# Altium footprint library SN74AVC4T774RSVR.PcbLib: 1 footprints
Each footprint in its own frame and in the unit in brackets; x right, y up, seen from the top. Pads: shape width x height; smd on the part's side, far side on the other; paste and mask are expansions set on the pad; w line width, h text height; cw(c..) or ccw(c..) is an arc to the next point about the centre after c.
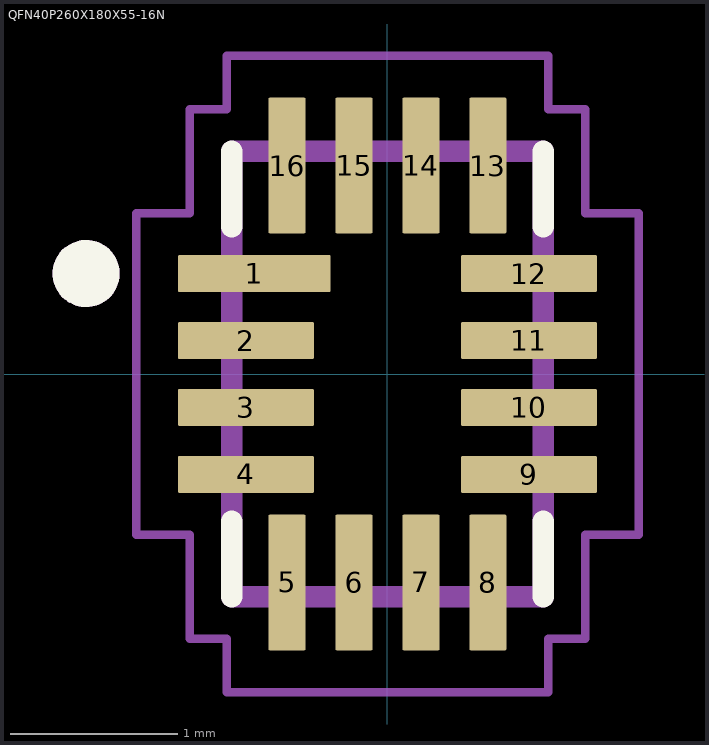
[diagram p0: the footprint, top view; thin cyan lines are the x and y axes]

## QFN40P260X180X55-16N [mm]
pads (16):
  rrect6% 0.91x0.22 smd: 1(-0.795,0.6)
  rrect6% 0.81x0.22 smd: 2(-0.845,0.2) 3(-0.845,-0.2) 4(-0.845,-0.6) 9(0.845,-0.6) 10(0.845,-0.2) 11(0.845,0.2) 12(0.845,0.6)
  rrect6% 0.22x0.81 smd: 5(-0.6,-1.245) 6(-0.2,-1.245) 7(0.2,-1.245) 8(0.6,-1.245) 13(0.6,1.245) 14(0.2,1.245) 15(-0.2,1.245) 16(-0.6,1.245)
Top Overlay:
  circle w0.2: c-1.8,0.6 r0.1
  lines w0.127: -0.93,-1.33 -0.93,-0.88 ; -0.93,0.88 -0.93,1.33 ; 0.93,-1.33 0.93,-0.88 ; 0.93,0.88 0.93,1.33
Mechanical 13:
  circle w0.2: c-1.8,0.6 r0.1
  lines w0.127: -0.93,-1.33 -0.93,1.33 0.93,1.33 0.93,-1.33 -0.93,-1.33
Mechanical 15:
  lines w0.05: -1.5,-0.96 -1.5,0.96 -1.18,0.96 -1.18,1.58 -0.96,1.58 -0.96,1.9 0.96,1.9 0.96,1.58 1.18,1.58 1.18,0.96 1.5,0.96 1.5,-0.96 1.18,-0.96 1.18,-1.58 0.96,-1.58 0.96,-1.9 -0.96,-1.9 -0.96,-1.58 -1.18,-1.58 -1.18,-0.96 -1.5,-0.96